# Altium schematic symbol library Socket.SchLib: 43 symbols
Pins are listed as number, name and electrical type; pins without a type are passive.

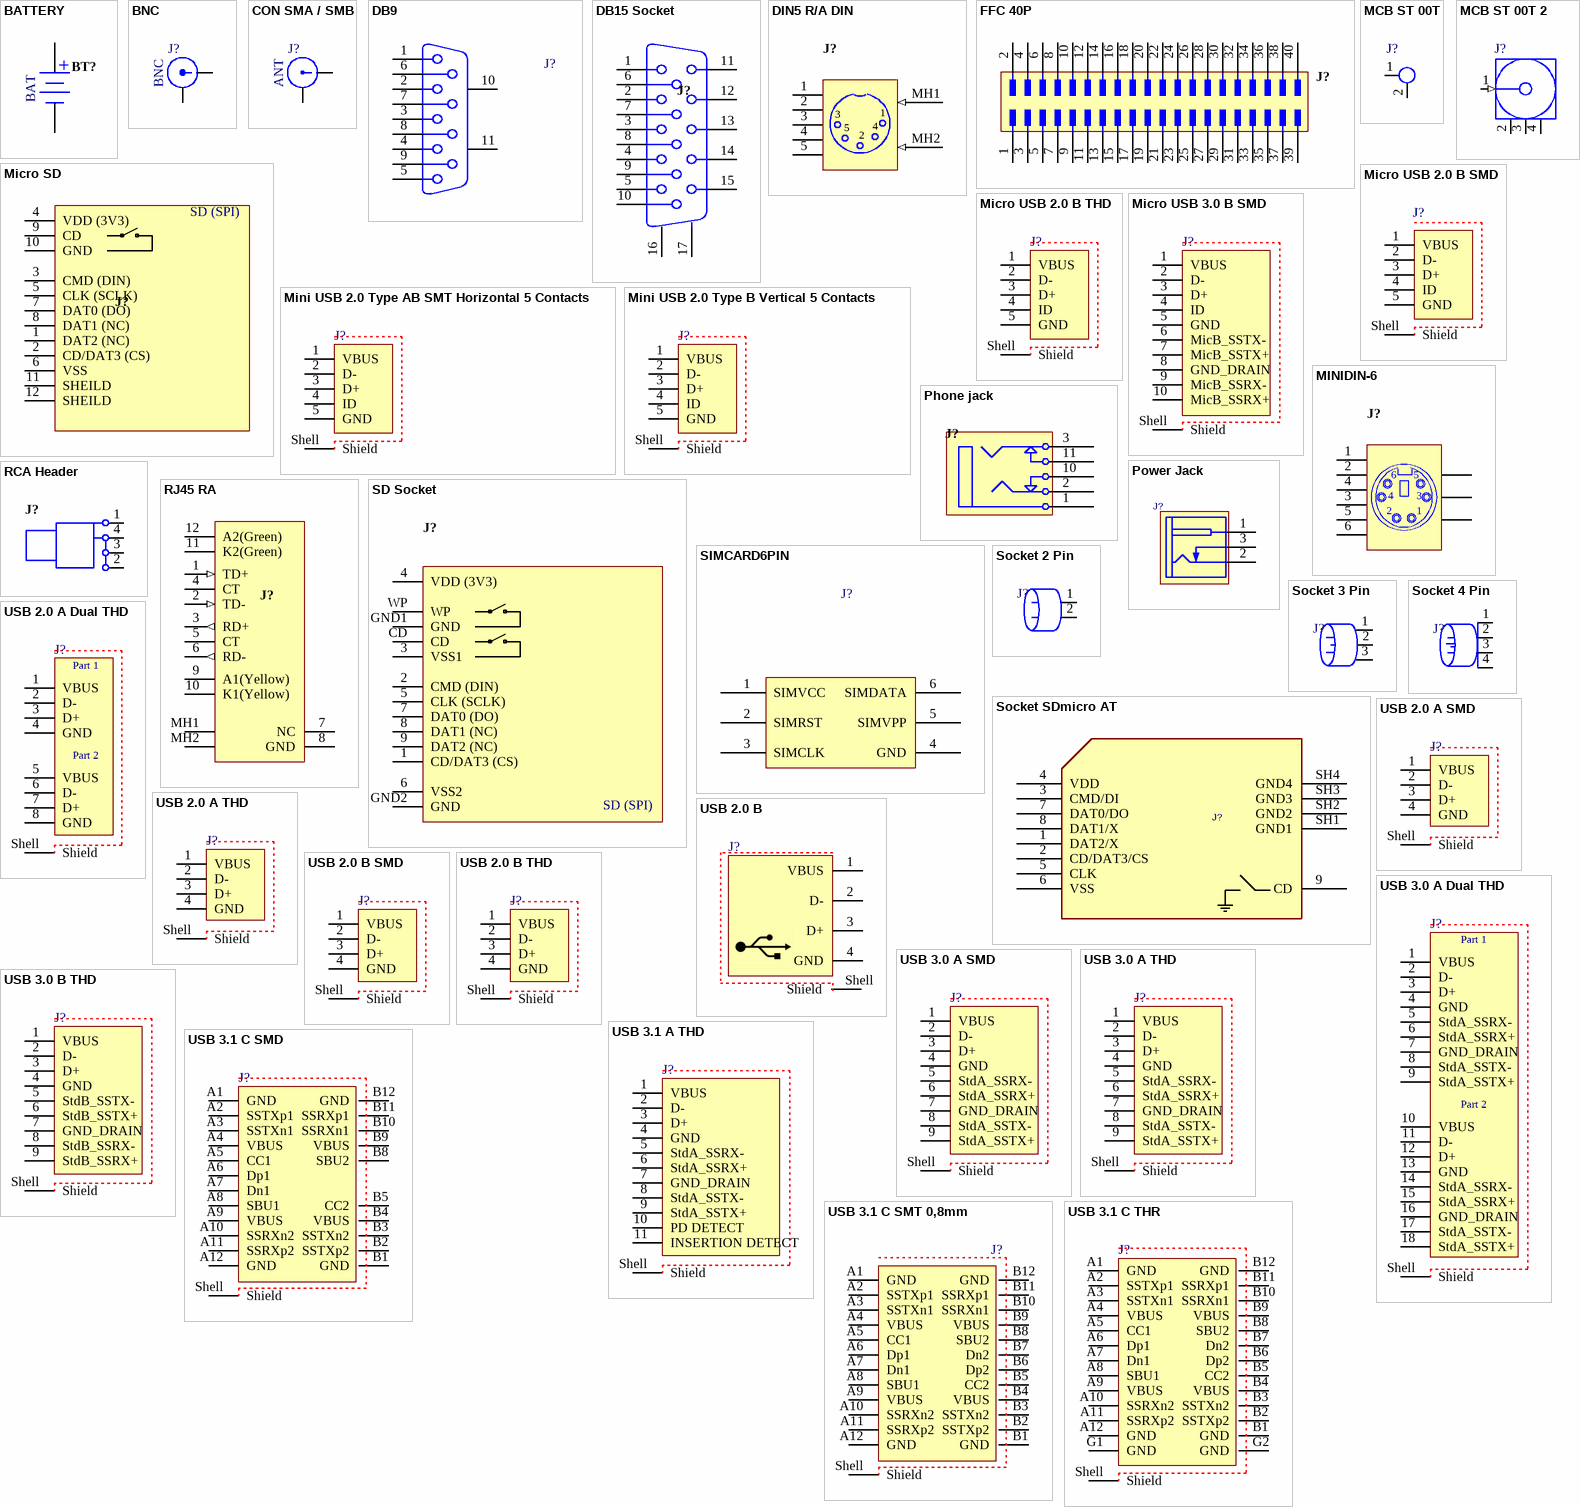
[diagram p0: symbols BATTERY to USB 3.1 C THR]

## BATTERY
designator BT?  value BAT
BATTERY; DatasheetVersion: 2022
footprint CELL HOLDER2 (Battery Cell Holder)
footprint SMD CELL HOLDER
footprint BAT Backup
footprint WA BCMC Battery 1 (Battery Holder, Battery)
footprint WA-BCMC Battery 2 (Battery Holder, Battery)
footprint WA-BCMC Battery 3 (Battery Holder, Battery)
footprint WA-BCMC Battery 4 (Battery Holder, Battery)
footprint WA BCPH 1 (Battery Holder)
footprint WA BCPH 2 (Battery Holder)
footprint WA BCPH 3 (Battery Holder)
footprint WA BCPH 4 (Battery Holder)
footprint Holder & Battery (Holder Battery 3.3v)
footprint BATTERY REDD (CELL BATTERY HOLDER 1220 12mm CR1220)
pins: 1 + (power), 2 - (power)
1 alternate drawing of the same symbol

## BNC
designator J?  value BNC
BNC Socket, PCB Mounted; DatasheetVersion: 2022
footprint BNC - Connector
footprint BNC - Complex
pins: 1, 2

## CON SMA / SMB
designator J?  value ANT
CON SMA / SMB; DatasheetVersion: 2022
footprint DIP_CON_SMA-Vertical (High Frequency SMA Connector)
footprint DIP_CON_SMB-Vertical (High Frequency SMB Connector)
pins: 1, 2

## DB9
designator J?
DB9; DatasheetVersion: 2022
footprint DB9 Female (Connector; D Subminiature AMPLIMITE 2000; 9 Position; Right Angle)
footprint DB9 Male (Connector; D Subminiature AMPLIMITE 2000; 9 Position; Right Angle)
pins: 1 (Data Carrier Detect) DCD, 2 (Receive Data) RxD, 3 (Trasmit Data) TxD, 4 (Data Terminal Ready) DTR, 5 (Signal Ground) GND, 6 (Data Set Ready) DSR, 7 (Request To Send) RTS, 8 (Clear To Send) CTS, 9 (Ring Indicator) RI, 10, 11
2 alternate drawings of the same symbol

## DB15 Socket
designator J?
DB15 Socket; DatasheetVersion: 2022
footprint DIP_CON_DB15_FEMALE (DB15 VGA connector)
pins: 1 "Red Video", 2 "Green Video", 3 "Blue Video", 4 "Monitor ID Bit 2 (Ground)", 5 (power) "Ground", 6 (power) "Red Return (Ground)", 7 (power) "Green Return (Ground)", 8 (power) "Blue Return (Ground)", 9 "Key (not used)", 10 (power) "Sync Return (Ground)", 11 (power) "Monitor ID Bit 0 (Ground)", 12 "Monitor ID Bit 1 (Not Used)", 13 "Horizontal Zync", 14 "Vertical Sync", 15 "Vertical Sync", 16 MH1 "shield", 17 MH2 "shield"

## DIN5 R/A DIN
designator J?
DIN5 R/A DIN; DatasheetVersion: 2022
footprint DIP_CON_DIN5
pins: 1, 2, 3, 4, 5, MH1 (in), MH2 (in)

## FFC 40P
designator J?
FFC 40P; DatasheetVersion: 2022
footprint SMD_CON_FPC_2x20 (FPC-XXS1VN3R)
footprint FFC/SM0.5-2H40A (Connector; FH12 Series; 40 Position; 0.5mm Spaced Top Contact)
pins: 1, 2, 3, 4, 5, 6, 7, 8, 9, 10, 11, 12, 13, 14, 15, 16, 17, 18, 19, 20, 21, 22, 23, 24, 25, 26, 27, 28, 29, 30, 31, 32, 33, 34, 35, 36, 37, 38, 39, 40

## MCB ST 00T
designator J?
MCB ST 00T; ComponentLinkp-URL: https://www.smartw.ir/; DatasheetVersion: 2022
footprint SMD_U.FL-R-SMT-1
pins: 1, 2

## MCB ST 00T 2
designator J?
MCB ST 00T; ComponentLinkp-URL: https://www.smartw.ir/; DatasheetVersion: 2022
footprint SMA_(UFL)
pins: 1 Signal (in) "Signal Pin", 2 GND (power), 3 GND (power), 4 GND (power)

## Micro SD
designator J?
Secure Digital Card Socket; DatasheetVersion: 2022
footprint Micro SD (MicroSD Socket (Molex 500873-080X))
pins: 1 DAT2 (NC), 2 CD/DAT3 (CS), 3 CMD (DIN), 4 VDD (3V3) (power), 5 CLK (SCLK), 6 VSS (power), 7 DAT0 (DO), 8 DAT1 (NC), 9 CD, 10 GND (power), 11 SHEILD (power), 12 SHEILD (power)
text: SD (SPI)

## Micro USB 2.0 B SMD
designator J?
Micro USB 2.0 Type B Receptacle WR-COM, Horizontal, SMT, with Pads and Pegs; DatasheetVersion: 2022
footprint Micro USB 2.0 SMT Type B Horizontal 5 Contacts
footprint Micro USB 2.0 SMT Type B Horizontal 5 Contacts High Current
footprint Micro USB 2.0 Type AB Horizontal
pins: 1 VBUS, 2 D-, 3 D+, 4 ID, 5 GND, Shell Shield

## Micro USB 2.0 B THD
designator J?
Micro USB 2.0 Type AB Receptacle WR-COM, Vertical, THT; DatasheetVersion: 2022
footprint Micro USB 2.0 Type AB Vertical 5 Contacts
footprint Micro USB 2.0 Type B Vertical 5 Contacts
pins: 1 VBUS, 2 D-, 3 D+, 4 ID, 5 GND, Shell Shield

## Micro USB 3.0 B SMD
designator J?
Micro USB 3.0 Type B Receptacle WR-COM, Horizontal, SMT, with Pads; DatasheetVersion: 2022
footprint Micro USB 3.0 Type B Horizontal SMT
footprint Micro USB 3.0 Type B Vertical SMT
pins: 1 VBUS, 2 D-, 3 D+, 4 ID, 5 GND, 6 MicB_SSTX-, 7 MicB_SSTX+, 8 GND_DRAIN, 9 MicB_SSRX-, 10 MicB_SSRX+, Shell Shield

## Mini USB 2.0 Type AB SMT Horizontal 5 Contacts
designator J?
Mini USB 2.0 Type AB Receptacle WR-COM, Horizontal, SMT, with Pads; DatasheetVersion: 2022
footprint Mini USB 2.0 Type AB SMT Horizontal 5 Contacts
footprint Mini USB 2.0 Type B SMT Horizontal 5 Contacts
pins: 1 VBUS, 2 D-, 3 D+, 4 ID, 5 GND, Shell Shield

## Mini USB 2.0 Type B Vertical 5 Contacts
designator J?
Mini USB 2.0 Type B Receptacle WR-COM, Vertical, THT; DatasheetVersion: 2022
footprint Mini USB 2.0 Type B Vertical 5 Contacts
pins: 1 VBUS, 2 D-, 3 D+, 4 ID, 5 GND, Shell Shield

## MINIDIN-6
designator J?
DatasheetVersion: 2022
footprint DIP_CON_MINIDIN6_Keyboard (PS2 Conector-Keyboard)
footprint DIP_CON_MINIDIN6_MOUSE (PS2 Connector-Mouse)
pins: 1, 2, 3, 4, 5, 6, MH1 "Mounting Fixture", MH2 "Mounting Fixture", MH3 "Mounting Fixture"

## Phone jack
designator J?
DatasheetVersion: 2022
footprint DIP_CON_TSH_3675_Headphone (TSH3675 Connector - Headphone)
footprint DIP_CON_TSH_3675_Line In (TSH3675 Connector - Line In)
footprint DIP_CON_TSH_3675_Line Out (TSH3675 Connector - Line Out)
pins: 1, 2, 3, 10, 11
3 alternate drawings of the same symbol

## Power Jack
designator J?
Power Jack; DatasheetVersion: 2022
footprint POWER J1 (DC POWER JACK, Power Jack KLDX-0202)
footprint POWER J2 (DC POWER JACK, 2.1mm Dia, PJ-011B)
footprint POWER J3 (DC POWER JACK, 2.5mm Dia, SWITCHCRAFT 712A)
footprint POWER J4 (DC POWER JACK, 2.0mm Dia, PJ-065A)
footprint POWER J5 (DC POWER JACK, 2.0mm Dia, PJ-064A)
footprint POWER J6 (DC POWER JACK, 2.0mm Dia, PJ-011A)
footprint POWER J7 (DC POWER JACK, 2.1mm Dia, PJ-005A)
footprint POWER J8 (DC POWER JACK, 2.1mm Dia, DC-022)
footprint POWER J9 (DC POWER JACK, 2.1mm Dia, SWITCHCRAFT 721A)
footprint POWER J10 (Power Connector, KPJX-4S-S)
footprint POWER J11 (DC POWER JACK, 0.7mm ID, 2.35mm OD)
footprint POWER J12 (DC POWER JACK, CUI PJ-036A-SMT)
footprint POWER J13 (DC POWER JACK, 2.1mm Dia, PJ-066A, right angled)
footprint POWER J14 (DC POWER JACK, CUI Inc. PJ-003A, 7.8mm Height, 2mm Center pin)
pins: 1 TIP (power), 2 SLEEVE (power), 3 INSERTION_DET (power)

## RCA Header
designator J?
RCA Header; DatasheetVersion: 2022
footprint DIP_CON_TRC (TRC Video Connector)
pins: 1 Black, 2 Yellow, 3 White, 4 Red

## RJ45 RA
designator J?
RJ45 RA; DatasheetVersion: 2022
footprint DIP_CON_RJ45_RA_LEDS (RJ45 Ethernet Connector With LEDs)
footprint DIP_CON_RJ45_RA_LEDS2 (HR911105A Connector)
pins: 1 TD+ (in), 2 TD- (in), 3 RD+ (out), 4 CT (power), 5 CT (power), 6 RD- (out), 7 NC, 8 GND (power), 9 A1(Yellow), 10 K1(Yellow), 11 K2(Green), 12 A2(Green), MH1 (power), MH2 (power)
1 alternate drawing of the same symbol

## SD Socket
designator J?
DatasheetVersion: 2022
footprint SMD_SOCKET_SD (KSDC012551)
footprint SMD_SOCKET_MMC
pins: 1 CD/DAT3 (CS), 2 CMD (DIN), 3 VSS1 (power), 4 VDD (3V3) (power), 5 CLK (SCLK), 6 VSS2 (power), 7 DAT0 (DO), 8 DAT1 (NC), 9 DAT2 (NC), CD, GND1 GND (power), GND2 GND (power), WP
text: SD (SPI)

## SIMCARD6PIN
designator J?
SIMCARD6PIN; ComponentLinkp-URL: https://www.smartw.ir/; DatasheetVersion: 2022
footprint SIMCARD6pin
footprint SIMCARD_6pin
pins: 1 SIMVCC, 2 SIMRST, 3 SIMCLK, 4 GND, 5 SIMVPP, 6 SIMDATA

## Socket 2 Pin
designator J?
Power Input; DatasheetVersion: 2022
footprint 2pin
pins: 1, 2

## Socket 3 Pin
designator J?
Power Input; DatasheetVersion: 2022
footprint 3PIN
pins: 1, 2, 3

## Socket 4 Pin
designator J?
Power Input; DatasheetVersion: 2022
footprint 4pin
pins: 1, 2, 3, 4

## Socket SDmicro AT
designator J?
Socket SDmicro AT; DatasheetVersion: 2022
footprint SDMICRO_AT (SDMICRO, Attend 112J-TDAR-R01, push-push)
pins: 1 DAT2/X, 2 CD/DAT3/CS, 3 CMD/DI, 4 VDD, 5 CLK, 6 VSS, 7 DAT0/DO, 8 DAT1/X, 9 CD, SH1 GND1, SH2 GND2, SH3 GND3, SH4 GND4

## USB 2.0 A Dual THD
designator J?
USB 2.0 A Dual THD; DatasheetVersion: 2022
footprint USB 2.0 Type A Horizontal Dual Stacked
footprint USB 2.0 Type A Vertical Dual
pins: 1 VBUS, 2 D-, 3 D+, 4 GND, 5 VBUS, 6 D-, 7 D+, 8 GND, Shell Shield
text: Part 1; Part 2

## USB 2.0 A SMD
designator J?
USB 2.0 A SMD; DatasheetVersion: 2022
footprint USB 2.0 Plug Type A SMT with Clip
footprint USB 2.0 SMT Type A Horizontal
footprint USB 2.0 Type A Horizontal SMT Short Type
footprint USB 2.0 Type A Horizontal SMT with pegs
footprint USB/SM2.5-4H4A (Connector; USB1.1, Type A, SM; 4 Position; Right Angle)
footprint USB/SM2.5-4H4 (Connector; USB1.1, Type A, SM; 4 Position; Right Angle)
pins: 1 VBUS, 2 D-, 3 D+, 4 GND, Shell Shield

## USB 2.0 A THD
designator J?
USB 2.0 A THD; DatasheetVersion: 2022
footprint USB 2.0 Type A Horizontal THT
footprint USB 2.0 Type A Horizontal
footprint USB 2.0 THT Type A Horizontal Slim Type
footprint USB 2.0 Type A Horizontal THT Short Type
footprint USB 2.0 Type A Up Right
footprint USB 2.0 Type A Up Right THT
footprint USB 2.0 Type A Vertical
footprint USB 2.0 Type A Vertical Short Type THT White
footprint USB2.5-2V4A (Connector; USB1.1, Type A, Thru-Hole; 4 Position; Vertical)
footprint USB2.5-2H4C (Connector; USB1.1, Type A, Thru-Hole; 4 Position; Right Angle)
footprint USB2.0-4H4 (Connector; USB1.1, Type A, Thru-Hole; 4 Position; Right Angle)
footprint USB A TYPE Right Angle (Connector; USB1.1, Type A, SM; 4 Position; Right Angle)
footprint USB Type A Vertical THR
footprint USB Type A Horizontal THR
pins: 1 VBUS, 2 D-, 3 D+, 4 GND, Shell Shield

## USB 2.0 B
designator J?
USB 2.0 B; DatasheetVersion: 2022
footprint USB2.5-2H4D (Connector; USB1.1, Type B, Thru-Hole; 4 Position; Right Angle)
footprint USB2.5-2H4E (Connector; USB1.1, Type B, Thru-Hole; 4 Position; Right Angle)
footprint USB2.5-2H4F (Connector; USB1.1, Type B, Thru-Hole; 4 Position; Right Angle)
footprint USB2.5-2H4G (Connector; USB1.1, Type B, Thru-Hole; 4 Position; Right Angle)
footprint USB2.5-2V4 (Connector; USB1.1, Type B, Thru-Hole; 4 Position; Vertical)
footprint USB2.5-4V4 (Connector; USB1.1, Type B, Thru-Hole; 4 Position; Vertical)
footprint USB/SM1.25-4H4 (Connector; USB1.1, Type B, SM; 4 Position; Right Angle)
pins: 1 VBUS (power), 2 D-, 3 D+, 4 GND (power), Shell Shield

## USB 2.0 B SMD
designator J?
USB 2.0 B SMD; DatasheetVersion: 2022
footprint USB 2.0 Type B SMT Horizontal
pins: 1 VBUS, 2 D-, 3 D+, 4 GND, Shell Shield

## USB 2.0 B THD
designator J?
USB 2.0 B THD; DatasheetVersion: 2022
footprint USB 2.0 Type B Horizontal
footprint USB 2.0 Type B Vertical
footprint USB Type B Horizontal THR
pins: 1 VBUS, 2 D-, 3 D+, 4 GND, Shell Shield

## USB 3.0 A Dual THD
designator J?
USB 3.0 A Dual THD; DatasheetVersion: 2022
footprint USB 3.0 Type A Stacked XX
pins: 1 VBUS, 2 D-, 3 D+, 4 GND, 5 StdA_SSRX-, 6 StdA_SSRX+, 7 GND_DRAIN, 8 StdA_SSTX-, 9 StdA_SSTX+, 10 VBUS, 11 D-, 12 D+, 13 GND, 14 StdA_SSRX-, 15 StdA_SSRX+, 16 GND_DRAIN, 17 StdA_SSTX-, 18 StdA_SSTX+, Shell Shield
text: Part 1; Part 2

## USB 3.0 A SMD
designator J?
USB 3.0 A SMD; DatasheetVersion: 2022
footprint USB 3.0 Type A Horizontal SMD 9 PIN
footprint USB 3.0 Type A SMT Plug with Clip
pins: 1 VBUS, 2 D-, 3 D+, 4 GND, 5 StdA_SSRX-, 6 StdA_SSRX+, 7 GND_DRAIN, 8 StdA_SSTX-, 9 StdA_SSTX+, Shell Shield

## USB 3.0 A THD
designator J?
USB 3.0 A THD; DatasheetVersion: 2022
footprint USB 3.0 Type A Horizontal THD
footprint USB 3.0 Type A Reverse Horizontal w. Offset 0.14mm
footprint USB 3.0 Type A Horizontal with Offset 1.04mm
footprint USB 3.0 Type A Reverse Horizontal with Offset 1.75mm
footprint USB 3.0 Type A Vertical THT 9 PIN
pins: 1 VBUS, 2 D-, 3 D+, 4 GND, 5 StdA_SSRX-, 6 StdA_SSRX+, 7 GND_DRAIN, 8 StdA_SSTX-, 9 StdA_SSTX+, Shell Shield

## USB 3.0 B THD
designator J?
USB 3.0 B THD; DatasheetVersion: 2022
footprint USB 3.0 Type B Horizontal XX
pins: 1 VBUS, 2 D-, 3 D+, 4 GND, 5 StdB_SSTX-, 6 StdB_SSTX+, 7 GND_DRAIN, 8 StdB_SSRX-, 9 StdB_SSRX+, Shell Shield

## USB 3.1 A THD
designator J?
USB 3.1 A THD; DatasheetVersion: 2022
footprint USB 3.1 Type A Receptacle Horizontal THT Power Delivery
pins: 1 VBUS, 2 D-, 3 D+, 4 GND, 5 StdA_SSRX-, 6 StdA_SSRX+, 7 GND_DRAIN, 8 StdA_SSTX-, 9 StdA_SSTX+, 10 PD DETECT, 11 INSERTION DETECT, Shell Shield

## USB 3.1 C SMD
designator J?
USB 3.1 C SMD; DatasheetVersion: 2022
footprint USB 3.1 Type C Plug Horizontal SMT
pins: A1 GND, A2 SSTXp1, A3 SSTXn1, A4 VBUS, A5 CC1, A6 Dp1, A7 Dn1, A8 SBU1, A9 VBUS, A10 SSRXn2, A11 SSRXp2, A12 GND, B1 GND, B2 SSTXp2, B3 SSTXn2, B4 VBUS, B5 CC2, B8 SBU2, B9 VBUS, B10 SSRXn1, B11 SSRXp1, B12 GND, Shell Shield

## USB 3.1 C SMT 0,8mm
designator J?
USB 3.1 C SMT 0,8mm; DatasheetVersion: 2022
footprint USB  Type C 3.1 Plug Horizontal SMT 0,8mm
footprint USB Type C 3.1 Vertical SMT 1,0mm
pins: A1 GND, A2 SSTXp1, A3 SSTXn1, A4 VBUS, A5 CC1, A6 Dp1, A7 Dn1, A8 SBU1, A9 VBUS, A10 SSRXn2, A11 SSRXp2, A12 GND, B1 GND, B2 SSTXp2, B3 SSTXn2, B4 VBUS, B5 CC2, B6 Dp2, B7 Dn2, B8 SBU2, B9 VBUS, B10 SSRXn1, B11 SSRXp1, B12 GND, Shell Shield

## USB 3.1 C THR
designator J?
USB 3.1 C THR; DatasheetVersion: 2022
footprint USB 3.1 Type C Receptacle Horizontal THR
pins: A1 GND, A2 SSTXp1, A3 SSTXn1, A4 VBUS, A5 CC1, A6 Dp1, A7 Dn1, A8 SBU1, A9 VBUS, A10 SSRXn2, A11 SSRXp2, A12 GND, B1 GND, B2 SSTXp2, B3 SSTXn2, B4 VBUS, B5 CC2, B6 Dp2, B7 Dn2, B8 SBU2, B9 VBUS, B10 SSRXn1, B11 SSRXp1, B12 GND, G1 GND, G2 GND, Shell Shield

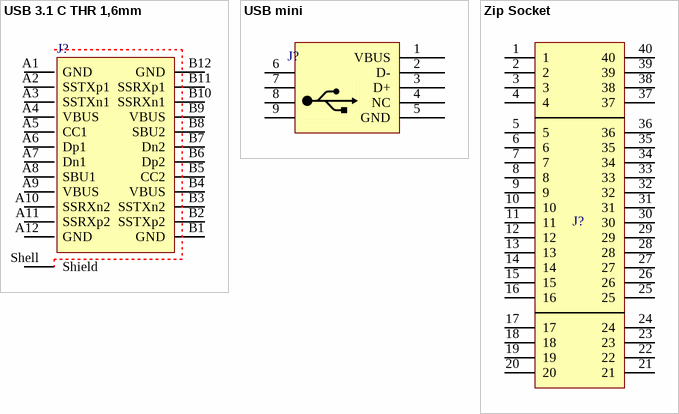
[diagram p1: symbols USB 3.1 C THR 1,6mm to Zip Socket]

## USB 3.1 C THR 1,6mm
designator J?
USB 3.1 C THR 1,6mm; DatasheetVersion: 2022
footprint USB Type C 3.1 Mid-Mount THR/SMT 1,6mm
pins: A1 GND, A2 SSTXp1, A3 SSTXn1, A4 VBUS, A5 CC1, A6 Dp1, A7 Dn1, A8 SBU1, A9 VBUS, A10 SSRXn2, A11 SSRXp2, A12 GND, B1 GND, B2 SSTXp2, B3 SSTXn2, B4 VBUS, B5 CC2, B6 Dp2, B7 Dn2, B8 SBU2, B9 VBUS, B10 SSRXn1, B11 SSRXp1, B12 GND, Shell Shield

## USB mini
designator J?
mini USB Connector; DatasheetVersion: 2022
footprint mini USB Connector
footprint SMD_Mini USB Connector
footprint USB/SM0.8-6H5 (Connector; USB2.0, Type B, SM; 5 Position; Right Angle)
pins: 1 VBUS (power), 2 D-, 3 D+, 4 NC (power), 5 GND (power), 6, 7, 8, 9

## Zip Socket
designator J?
40pin Zip/Zif Socket; DatasheetVersion: 2022
footprint DIP40 - Zip Socket
pins: 1, 2, 3, 4, 5, 6, 7, 8, 9, 10, 11, 12, 13, 14, 15, 16, 17, 18, 19, 20, 21, 22, 23, 24, 25, 26, 27, 28, 29, 30, 31, 32, 33, 34, 35, 36, 37, 38, 39, 40